# Altium schematic symbol library LOGO-AXESS.SchLib: 1 symbol
Pins are listed as number, name and electrical type; pins without a type are passive.

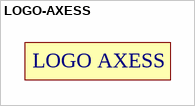
[diagram p0: symbol LOGO-AXESS]

## LOGO-AXESS
designator Logo?  (value not drawn)  (no BOM)
text: LOGO AXESS